# EAGLE library part LADAR6DEV (library MouseLib)
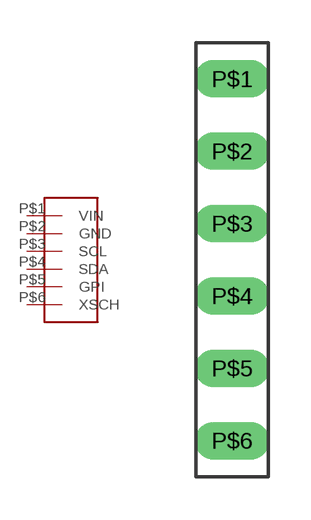
[diagram p13: symbol with the pads of 6PINS; footprint 6PINS]

Designator prefix -

## LADAR6DEV  [6PINS]
P$1  VIN
P$2  GND
P$3  SCL
P$4  SDA
P$5  GPI
P$6  XSCH

## Footprint 6PINS (pad centres in mm)
drill 0.8 pad 1.143 long: P$1 -2.54,10.16; P$2 -2.54,7.62; P$3 -2.54,5.08; P$4 -2.54,2.54; P$5 -2.54,0; P$6 -2.54,-2.54